# EAGLE library part 234-508 (library con-wago_234)
Serie 234, Klemmenleiste für Leiterplatten 2 Lötstifte/Pol / Series 234, PCB terminal strip 2 solder pins/pole Polzahl / Pole No.: 8 Rastermaß / Pitch: 2.54 mm Bemessungsspannung / Rated Voltage: 160 V Nennstrom / Nominal Current: 6 A Leiterquerschnitt / Conductor Size: 0.08 - 0.5 mm² Anschlusstechnik / Connection Technology: CAGE CLAMP® Lötstiftlänge: / Solder Pin Length: 4 mm Leitereinführung (zur Platine) / Conductor entry angle (to PCB): 90 ° Farbe / Color: orange / orange Stand: 01.01.2012. Die jeweils aktuellen Daten zu diesem Artikel finden Sie in unserem Produktkatalog, den Sie unter www.wago.com einsehen können. As of: 01/01/2012. Please find the newest data for this article in our product catalogue, which can be viewed under www.wago.com.
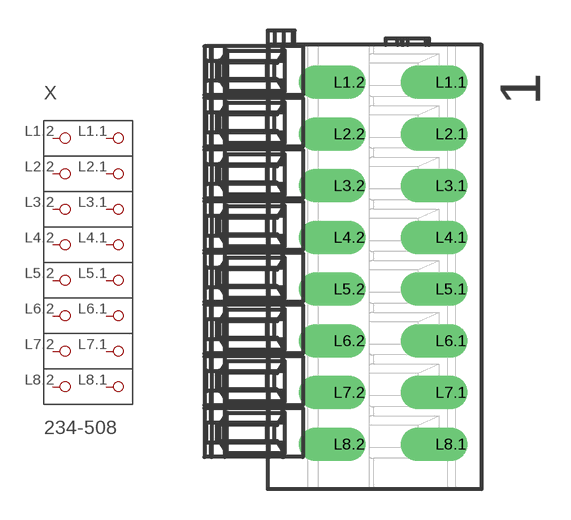
[diagram p16: symbol with the pads of P-234-508; footprint P-234-508]

Designator prefix X

## 234-508  [P-234-508]
L1.1  P1.1
L1.2  P1.2
L2.1  P2.1
L2.2  P2.2
L3.1  P3.1
L3.2  P3.2
L4.1  P4.1
L4.2  P4.2
L5.1  P5.1
L5.2  P5.2
L6.1  P6.1
L6.2  P6.2
L7.1  P7.1
L7.2  P7.2
L8.1  P8.1
L8.2  P8.2

## Footprint P-234-508 (pad centres in mm)
drill 1.1 offset: L1.1 5.303,8.72; L1.2 0.303,8.72; L2.1 5.303,6.18; L2.2 0.303,6.18; L3.1 5.303,3.64; L3.2 0.303,3.64; L4.1 5.303,1.1; L4.2 0.303,1.1; L5.1 5.303,-1.44; L5.2 0.303,-1.44; L6.1 5.303,-3.98; L6.2 0.303,-3.98; L7.1 5.303,-6.52; L7.2 0.303,-6.52; L8.1 5.303,-9.06; L8.2 0.303,-9.06